# EAGLE library part CON_PCB_10P (library blctrl20)
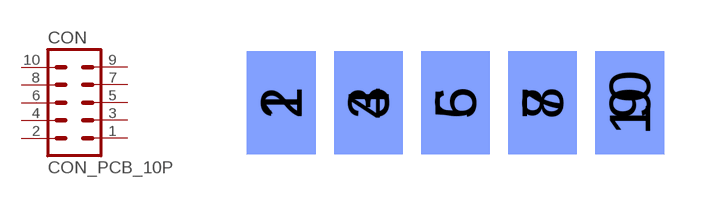
[diagram p1: symbol with the pads of BOARD_CON_SMD; footprint BOARD_CON_SMD]

Designator prefix CON

## CON_PCB_10P  [BOARD_CON_SMD]
1  1  pas
2  2  pas
3  3  pas
4  4  pas
5  5  pas
6  6  pas
7  7  pas
8  8  pas
9  9  pas
10  10  pas

## Footprint BOARD_CON_SMD (pad centres in mm)
smd 2 x 3: 1 0,0; 3 2.54,0; 5 5.08,0; 7 7.62,0; 9 10.16,0
smd 2 x 3 bottom: 2 0,0; 4 2.54,0; 6 5.08,0; 8 7.62,0; 10 10.16,0